# Altium schematic symbol library 112-024-113R001.SchLib: 1 symbol
Pins are listed as number, name and electrical type; pins without a type are passive.

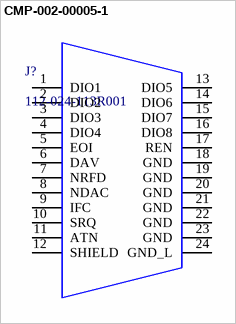
[diagram p0: symbol CMP-002-00005-1]

## CMP-002-00005-1
designator J?, comment 112-024-113R001
SCSI Connectors .085"/.050" 24P Centronics male R/A dip solder GPIB HPIB IEEE488 IEEE-488; Number of Contacts: 24; Current Rating: 5A; Connector Type: Plug,SCSI; Flammability Rating: UL94 V-0; Packaging: Tray; Mounting Technology: Through Hole; Package Quantity: 30; Series: 112; Lead Free: Lead Free; Gender: Male; Contact Material: Copper Alloy,Copper; Contact Plating: Gold; Reach SVHC Compliant: No; Number of Rows: 2; Termination: Solder; Housing Color: Blue; Number of Positions: 24; Housing Material: Plastic
footprint 112-024-113R001-Footprint-1
pins: 1 DIO1, 2 DIO2, 3 DIO3, 4 DIO4, 5 EOI, 6 DAV, 7 NRFD, 8 NDAC, 9 IFC, 10 SRQ, 11 ATN, 12 SHIELD, 13 DIO5, 14 DIO6, 15 DIO7, 16 DIO8, 17 REN, 18 GND, 19 GND, 20 GND, 21 GND, 22 GND, 23 GND, 24 GND_L